# Altium footprint library Stm32BluePill.PcbLib: 1 footprints
Each footprint in its own frame and in the unit in brackets; x right, y up, seen from the top. Pads: shape width x height; smd on the part's side, far side on the other; paste and mask are expansions set on the pad; w line width, h text height; cw(c..) or ccw(c..) is an arc to the next point about the centre after c.
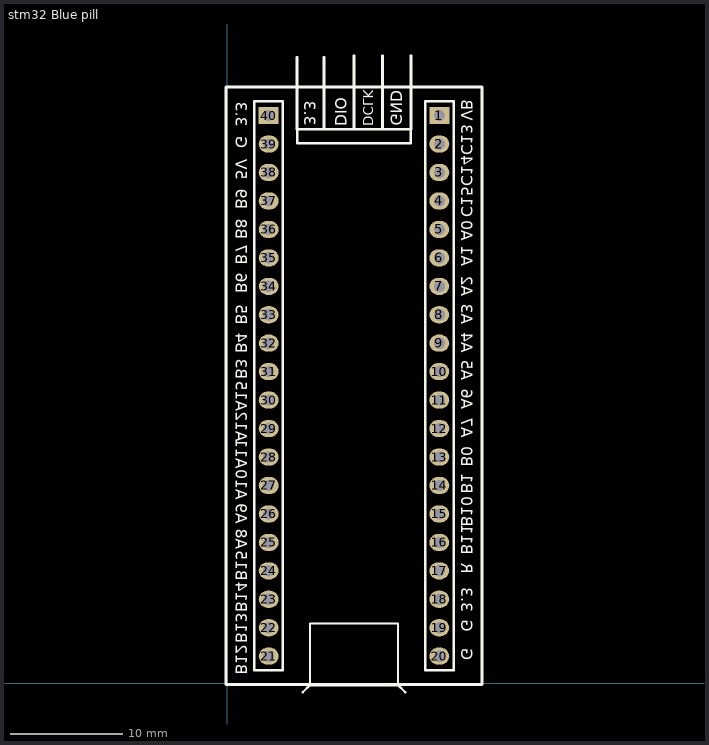
[diagram p0: the footprint, top view; thin cyan lines are the x and y axes]

## stm32 Blue pill [mil] "BluePill"
pads (40):
  rect 70x60 hole 39.37: 1(745,1995) 40(145,1995)
  oval 70x60 hole 39.37: 2(745,1895) 3(745,1795) 4(745,1695) 5(745,1595) 6(745,1495) 7(745,1395) 8(745,1295) 9(745,1195) 10(745,1095) 11(745,995) 12(745,895) 13(745,795) 14(745,695) 15(745,595) 16(745,495) 17(745,395) 18(745,295) 19(745,195) 20(745,95) 21(145,95) 22(145,195) 23(145,295) 24(145,395) 25(145,495) 26(145,595) 27(145,695) 28(145,795) 29(145,895) 30(145,995) 31(145,1095) 32(145,1195) 33(145,1295) 34(145,1395) 35(145,1495) 36(145,1595) 37(145,1695) 38(145,1795) 39(145,1895)
Top Overlay:
  lines w8: 265.2,-31.55 290,-6.75 290,33.25 290,210.1 ; 291.46,-6.75 598.54,-6.75 ; 291.46,210.1 370,210.1 ; 350,210.1 598.54,210.1 ; 600,210.1 600,33.25 600,-6.75 624.8,-31.55
  lines w9: 95,45 195,45 195,2045 95,2045 95,1970 95,45 ; 245,1897 645,1897 645,1947 245,1947 245,1897 ; 695,45 795,45 795,2045 695,2045 695,1970 695,45
  lines w10: -5,-5 45,-5 445,-5 895,-5 ; -5,-4 -5,2094 ; -5,2095 895,2095 ; 245,1947 245,2090 245,2200 ; 340,1950 340,2090 340,2200 ; 445,1947 445,2095 445,2205 ; 545,1950 545,2095 545,2205 ; 645,1947 645,2095 645,2205 ; 895,-4 895,2094
  text "C15C14C13" at 822,1637 h40
  text "G" at 822,81 h40
  text "DCLK" at 477,1957 h35
  text "GND" at 574,1959 h40
  text "3.3" at 271,1959 h40
  text "DIO" at 379,1957 h40
  text "3.3" at 30,1955 h40
  text "G" at 30,1880 h40
  text "5V" at 30,1770 h40
  text "B9" at 30,1665 h40
  text "B8" at 30,1560 h40
  text "B7" at 30,1470 h40
  text "B6" at 30,1370 h40
  text "B5" at 30,1260 h40
  text "B4" at 30,1160 h40
  text "B3" at 30,1068 h40
  text "A15" at 30,956 h40
  text "A12" at 30,848 h40
  text "A11" at 30,753 h40
  text "A10" at 30,645 h40
  text "A9" at 30,560 h40
  text "A8" at 30,470 h40
  text "B15" at 30,360 h40
  text "B14" at 30,250 h40
  text "B10" at 822,550 h40
  text "B1" at 822,665 h40
  text "B0" at 822,760 h40
  text "A0" at 822,1555 h40
  text "A1" at 822,1466 h40
  text "A2" at 822,1359.29 h40
  text "B11" at 822,451 h40
  text "R" at 822,385 h40
  text "A3" at 822,1261.43 h40
  text "A4" at 822,1162 h40
  text "A6" at 822,963 h40
  text "A5" at 822,1064 h40
  text "G" at 822,181 h40
  text "VB" at 822,1976 h40
  text "3.3" at 822,250 h40
  text "A7" at 822,863 h40
  text "B12" at 30,30 h40
  text "B13" at 30,140 h40